# EAGLE library part M50-3600542 (library Jack-connectors)
Harwin Archen connector, 1.27 mm pitch
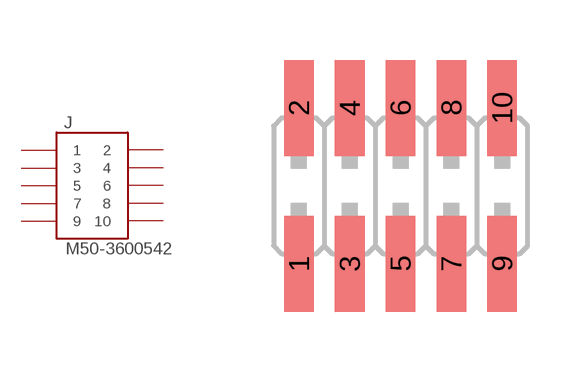
[diagram p13: symbol with the pads of M50-3600542; footprint M50-3600542]

Designator prefix J

## M50-3600542 (DESCRIPTION: Harwin SMT 10 pin header, 1.27 mm pitch; PACK: M50-3600542)  [M50-3600542]
1  1  pas
2  2  pas
3  3  pas
4  4  pas
5  5  pas
6  6  pas
7  7  pas
8  8  pas
9  9  pas
10  10  pas

## Footprint M50-3600542 (pad centres in mm)
smd 0.74 x 2.4: 1 -2.54,-1.95; 2 -2.54,1.95; 3 -1.27,-1.95; 4 -1.27,1.95; 5 0,-1.95; 6 0,1.95; 7 1.27,-1.95; 8 1.27,1.95; 9 2.54,-1.95; 10 2.54,1.95